# Altium footprint library Header.PcbLib: 119 footprints (part 7 of 8)
Each footprint in its own frame and in the unit in brackets; x right, y up, seen from the top. Pads: shape width x height; smd on the part's side, far side on the other; paste and mask are expansions set on the pad; w line width, h text height; cw(c..) or ccw(c..) is an arc to the next point about the centre after c.
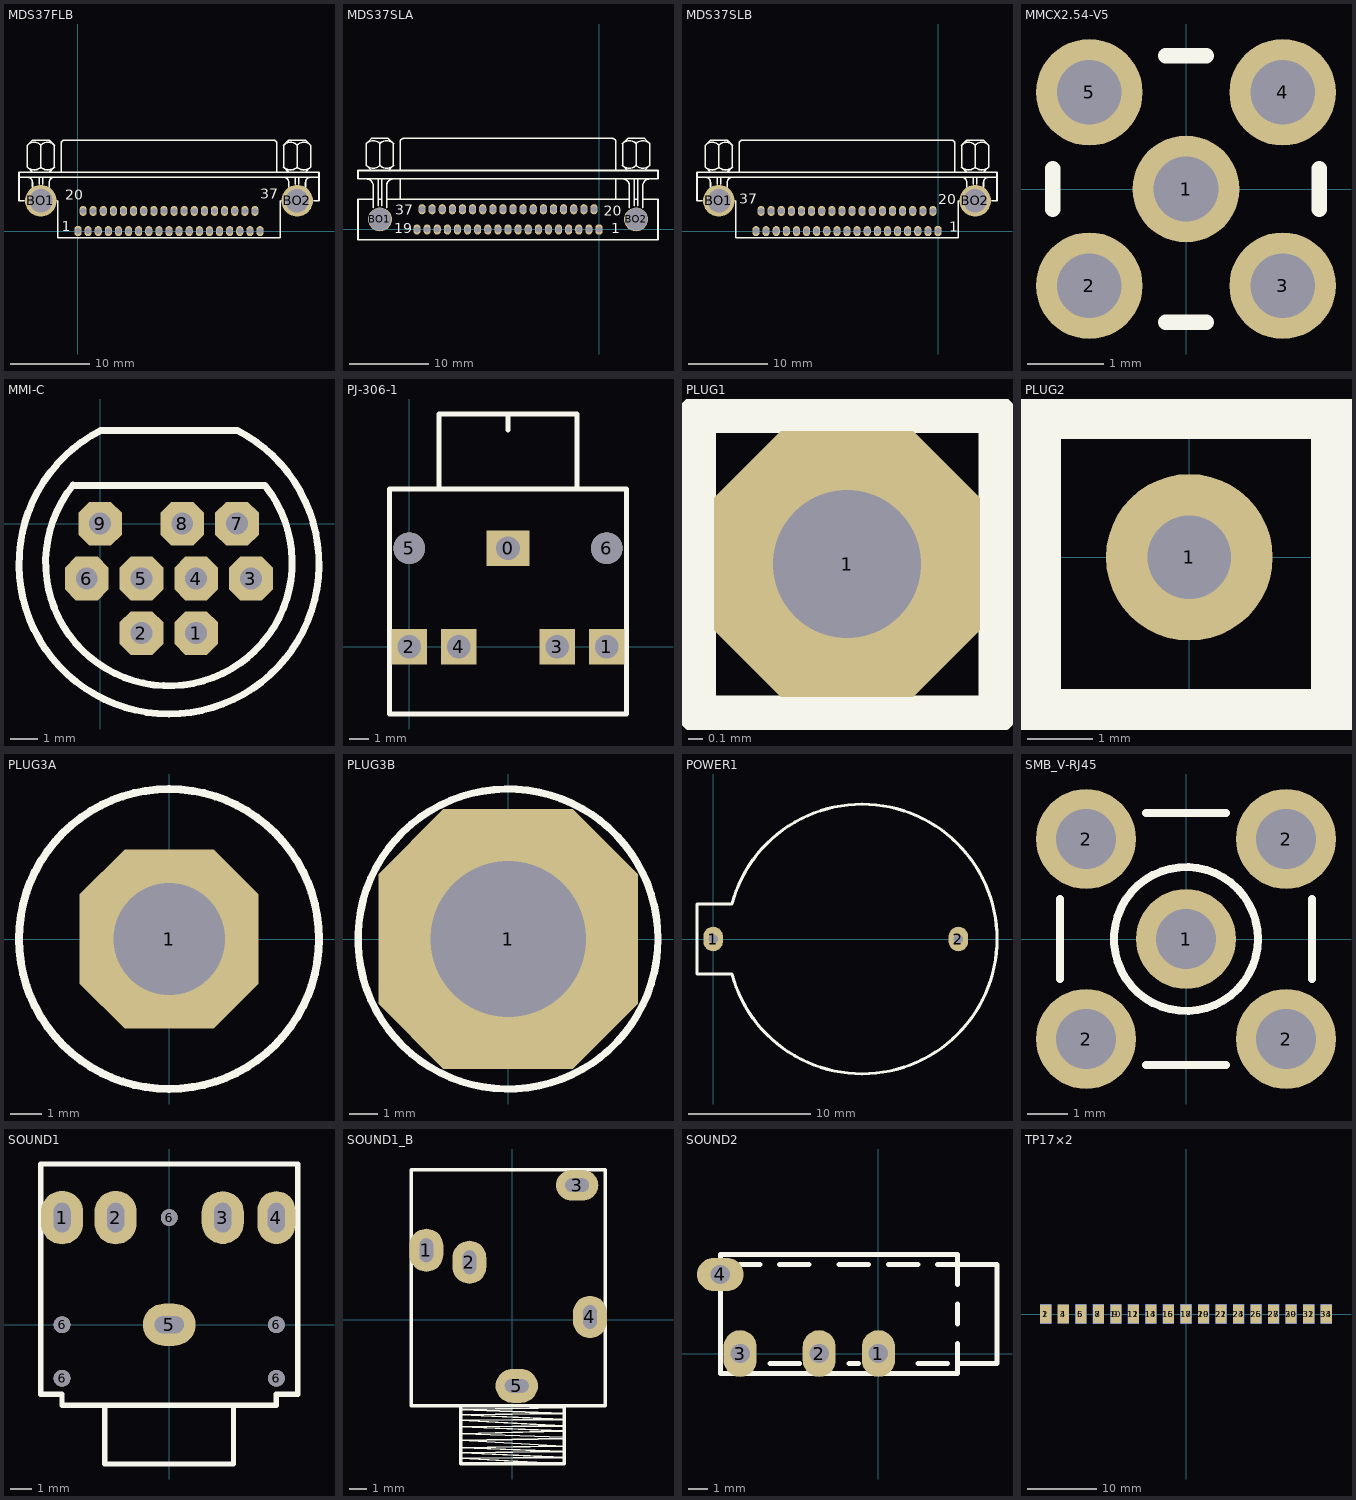
[diagram p6: the footprints below, top view; thin cyan lines are the x and y axes]

## MDS37FLB [mil]
pads (39):
  oct 35x50 hole 30: 1(0,0)
  oval 35x50 hole 30: 2(50,0) 3(100,0) 4(150,0) 5(200,0) 6(250,0) 7(300,0) 8(350,0) 9(400,0) 10(450,0) 11(500,0) 12(550,0) 13(600,0) 14(650,0) 15(700,0) 16(750,0) 17(800,0) 18(850,0) 19(900,0) 20(25,100) 21(75,100) 22(125,100) 23(175,100) 24(225,100) 25(275,100) 26(325,100) 27(375,100) 28(425,100) 29(475,100) 30(525,100) 31(575,100) 32(625,100) 33(675,100) 34(725,100) 35(775,100) 36(825,100) 37(875,100)
  round 156.67 hole 115: BO1(-183.33,150) BO2(1083.33,150)
Top Overlay:
  lines w8: -266.67,150 -291.67,150 -291.67,266.67 ; -250.25,316.41 ccw(c-216.67,350) -183.08,316.41 ; -250.25,425.25 cw(c-216.67,391.67) -183.08,425.25 ; -250,266.67 cw(c-250,241.67) -225,241.67 -225,216.67 ; -225,291.67 -250,316.67 -250,425 -225,450 -141.67,450 -116.67,425 -116.67,316.67 -141.67,291.67 ; -191.67,233.33 -191.67,266.67 ; -183.59,316.41 ccw(c-150,350) -116.41,316.41 ; -183.59,425.25 cw(c-150,391.67) -116.41,425.25 ; -183.33,316.67 -183.33,425 ; -175,233.33 -175,266.67 ; -141.67,216.67 -141.67,241.67 cw(c-116.67,241.67) -116.67,266.67 ; -100,150 -100,-33.33 1000,-33.33 1000,150 ; -83.33,291.67 -83.33,433.33 cw(c-66.67,433.33) -66.67,450 966.67,450 cw(c966.67,433.33) 983.33,433.33 983.33,291.67 ; 1016.41,316.41 ccw(c1050,350) 1083.59,316.41 ; 1016.41,425.25 cw(c1050,391.67) 1083.59,425.25 ; 1016.67,266.67 cw(c1016.67,241.67) 1041.67,241.67 1041.67,216.67 ; 1041.67,291.67 1016.67,316.67 1016.67,425 1041.67,450 1125,450 1150,425 1150,316.67 1125,291.67 ; 1075,233.33 1075,266.67 ; 1083.08,316.41 ccw(c1116.67,350) 1150.25,316.41 ; 1083.08,425.25 cw(c1116.67,391.67) 1150.25,425.25 ; 1083.33,316.67 1083.33,425 ; 1091.67,233.33 1091.67,266.67 ; 1125,216.67 1125,241.67 cw(c1150,241.67) 1150,266.67 ; 1166.67,150 1191.67,150 1191.67,266.67 ; -291.67,266.67 1191.67,266.67 ; -291.67,266.67 -291.67,291.67 1191.67,291.67 1191.67,266.67
  text "1" at -80,0 h50
  text "20" at -62.44,156.33 h50
  text "37" at 900,160 h50

## MDS37SLA [mil]
pads (39):
  oct 35x50 hole 30: 1(0,0)
  oval 35x50 hole 30: 2(-50,0) 3(-100,0) 4(-150,0) 5(-200,0) 6(-250,0) 7(-300,0) 8(-350,0) 9(-400,0) 10(-450,0) 11(-500,0) 12(-550,0) 13(-600,0) 14(-650,0) 15(-700,0) 16(-750,0) 17(-800,0) 18(-850,0) 19(-900,0) 20(-25,100) 21(-75,100) 22(-125,100) 23(-175,100) 24(-225,100) 25(-275,100) 26(-325,100) 27(-375,100) 28(-425,100) 29(-475,100) 30(-525,100) 31(-575,100) 32(-625,100) 33(-675,100) 34(-725,100) 35(-775,100) 36(-825,100) 37(-875,100)
  round 118.33 hole 110.83: BO1(-1083.33,50) BO2(183.33,50)
Top Overlay:
  lines w8: -1150.25,316.41 ccw(c-1116.67,350) -1083.08,316.41 ; -1150.25,425.25 cw(c-1116.67,391.67) -1083.08,425.25 ; -1150,250 cw(c-1150,216.67) -1116.67,216.67 -1116.67,108.33 ; -1125,291.67 -1150,316.67 -1150,425 -1125,450 -1041.67,450 -1016.67,425 -1016.67,316.67 -1041.67,291.67 ; -1116.67,150 -1191.67,150 -1191.67,-50 291.67,-50 291.67,150 216.67,150 ; -1091.67,116.67 -1091.67,250 ; -1091.67,150 -1075,150 ; -1083.59,316.41 ccw(c-1050,350) -1016.41,316.41 ; -1083.59,425.25 cw(c-1050,391.67) -1016.41,425.25 ; -1083.33,316.67 -1083.33,425 ; -1075,116.67 -1075,250 ; -1050,108.33 -1050,216.67 cw(c-1016.67,216.67) -1016.67,250 ; -1050,150 150,150 ; -983.33,150 -983.33,250 ; -983.33,291.67 -983.33,433.33 cw(c-966.67,433.33) -966.67,450 66.67,450 cw(c66.67,433.33) 83.33,433.33 83.33,291.67 ; 83.33,150 83.33,250 ; 116.41,316.41 ccw(c150,350) 183.59,316.41 ; 116.41,425.25 cw(c150,391.67) 183.59,425.25 ; 116.67,250 cw(c116.67,216.67) 150,216.67 150,108.33 ; 141.67,291.67 116.67,316.67 116.67,425 141.67,450 225,450 250,425 250,316.67 225,291.67 ; 175,116.67 175,250 ; 175,150 191.67,150 ; 183.08,316.41 ccw(c216.67,350) 250.25,316.41 ; 183.08,425.25 cw(c216.67,391.67) 250.25,425.25 ; 183.33,316.67 183.33,425 ; 191.67,116.67 191.67,250 ; 216.67,108.33 216.67,216.67 cw(c250,216.67) 250,250 ; -1191.67,250 -1191.67,291.67 291.67,291.67 291.67,250 -1191.67,250
  text "1" at 60,-20 h50
  text "19" at -1012.73,-18.18 h50
  text "37" at -1006.58,73.44 h50
  text "20" at 23.98,68.07 h50

## MDS37SLB [mil]
pads (39):
  oct 35x50 hole 30: 1(0,0)
  oval 35x50 hole 30: 2(-50,0) 3(-100,0) 4(-150,0) 5(-200,0) 6(-250,0) 7(-300,0) 8(-350,0) 9(-400,0) 10(-450,0) 11(-500,0) 12(-550,0) 13(-600,0) 14(-650,0) 15(-700,0) 16(-750,0) 17(-800,0) 18(-850,0) 19(-900,0) 20(-25,100) 21(-75,100) 22(-125,100) 23(-175,100) 24(-225,100) 25(-275,100) 26(-325,100) 27(-375,100) 28(-425,100) 29(-475,100) 30(-525,100) 31(-575,100) 32(-625,100) 33(-675,100) 34(-725,100) 35(-775,100) 36(-825,100) 37(-875,100)
  round 156.67 hole 115: BO1(-1083.33,150) BO2(183.33,150)
Top Overlay:
  lines w8: -1166.67,150 -1191.67,150 -1191.67,266.67 ; -1150.25,316.41 ccw(c-1116.67,350) -1083.08,316.41 ; -1150.25,425.25 cw(c-1116.67,391.67) -1083.08,425.25 ; -1150,266.67 cw(c-1150,241.67) -1125,241.67 -1125,216.67 ; -1125,291.67 -1150,316.67 -1150,425 -1125,450 -1041.67,450 -1016.67,425 -1016.67,316.67 -1041.67,291.67 ; -1091.67,233.33 -1091.67,266.67 ; -1083.59,316.41 ccw(c-1050,350) -1016.41,316.41 ; -1083.59,425.25 cw(c-1050,391.67) -1016.41,425.25 ; -1083.33,316.67 -1083.33,425 ; -1075,233.33 -1075,266.67 ; -1041.67,216.67 -1041.67,241.67 cw(c-1016.67,241.67) -1016.67,266.67 ; -1000,150 -1000,-33.33 100,-33.33 100,150 ; -983.33,291.67 -983.33,433.33 cw(c-966.67,433.33) -966.67,450 66.67,450 cw(c66.67,433.33) 83.33,433.33 83.33,291.67 ; 116.41,316.41 ccw(c150,350) 183.59,316.41 ; 116.41,425.25 cw(c150,391.67) 183.59,425.25 ; 116.67,266.67 cw(c116.67,241.67) 141.67,241.67 141.67,216.67 ; 141.67,291.67 116.67,316.67 116.67,425 141.67,450 225,450 250,425 250,316.67 225,291.67 ; 175,233.33 175,266.67 ; 183.08,316.41 ccw(c216.67,350) 250.25,316.41 ; 183.08,425.25 cw(c216.67,391.67) 250.25,425.25 ; 183.33,316.67 183.33,425 ; 191.67,233.33 191.67,266.67 ; 225,216.67 225,241.67 cw(c250,241.67) 250,266.67 ; 266.67,150 291.67,150 291.67,266.67 ; -1191.67,266.67 -1191.67,291.67 291.67,291.67 291.67,266.67 ; -1191.67,266.67 291.67,266.67
  text "1" at 56.69,-2.62 h50
  text "20" at 1.59,133.35 h50
  text "37" at -982.06,136.6 h50

## MMCX2.54-V5 [mm] "Connector; RF Coaxial, MMCX, Thru-Hole; 5 Position; Vertical"
height 4.45
pads (5):
  round 1.4 hole 0.85: 1(0,0) 2(-1.27,-1.27) 3(1.27,-1.27) 4(1.27,1.27) 5(-1.27,1.27)
Top Overlay:
  lines w0.2: -1.75,-0.27 -1.75,0.27 ; -0.27,-1.75 0.27,-1.75 ; -0.27,1.75 0.27,1.75 ; 1.75,-0.27 1.75,0.27

## MMI-C [mm]
pads (9):
  oct 1.6x1.6 hole 0.8: 1(3.508,-4) 2(1.508,-4) 3(5.508,-2.007) 4(3.508,-2.007) 5(1.508,-2.007) 6(-0.492,-2.007) 7(5,0) 8(3,0) 9(0,0)
Top Overlay:
  lines w0.254: -0.986,1.416 ccw(c2.51,-1.422) 6.022,1.396 ; -0.962,1.397 6.023,1.397 ; 0.017,3.404 5.017,3.404 cw(c2.515,-1.473) 0.027,3.411

## PJ-306-1 [mm]
pads (7):
  rect 2.2x1.8 hole 1.2: 0(5,5)
  rect 1.8x1.8 hole 1.2: 1(10,0) 2(0,0) 3(7.5,0) 4(2.5,0)
  round 1.6 hole 1.6 unplated: 5(0,5) 6(10,5)
Top Overlay:
  lines w0.254: 1.5,8 1.5,11.8 8.4,11.8 ; 5,11 5,11.8 ; 8.5,8 8.5,11.8 ; -1,-3.4 -1,8 11,8 11,-3.4 -1,-3.4
3D body: height 3.2, standoff -10.8, extent -1.041,-3.689 11.059,11.411

## PLUG1 [mm]
pads (1):
  oct 1.8x1.8 hole 1: 1(0,0)
Top Overlay:
  lines w0.254: -1.016,-1.016 0,-1.016 1.016,-1.016 1.016,1.016 -1.016,1.016 -1.016,-1.016

## PLUG2 [mil]
pads (1):
  round 100 hole 50: 1(0,0)
Top Overlay:
  lines w30: -92,-94 -92,86 88,86 88,-94 -92,-94

## PLUG3A [mil]
pads (1):
  oct 227x227 hole 141.73: 1(0,0)
Top Overlay:
  circle w10: c-0.26,0 r190.26

## PLUG3B [mm]
pads (1):
  oct 9x9 hole 5.4: 1(0,0)
Top Overlay:
  circle w0.254: c-0.007,0 r5.2

## POWER1 [mm]
pads (2):
  oval 1.6x2 hole 0.762: 1(0,0) 2(20,0)
Top Overlay:
  lines w0.254: -1.323,-2.847 -1.323,2.847 1.524,2.847 cw(c12.149,0) 1.524,-2.847 -1.217,-2.847

## SMB_V-RJ45 [mm] "Connector; SMB Straight"
pads (5):
  round 2.5 hole 1.5: 1(0,0) 2(-2.5,-2.5) 2(-2.5,2.5) 2(2.5,-2.5) 2(2.5,2.5)
Top Overlay:
  circle w0.2: c0,0 r1.8
  lines w0.2: -3.15,-1 -3.15,1 ; -1,-3.15 1,-3.15 ; -1,3.15 1,3.15 ; 3.15,-1 3.15,1
Mechanical 1:
  circle w0.025: c0,0 r0.2
  circle w0.025: c0,0 r1.05
  circle w0.025: c0,0 r1.8

## SOUND1 [mm]
pads (10):
  oval 2x2.54 hole 0.8 slot 1.4 at 90 deg: 1(-5.08,5.08) 2(-2.54,5.08)
  oval 2x2.5 hole 0.8 slot 1.4 at 90 deg: 3(2.54,5.08)
  oval 1.8x2.5 hole 0.8 slot 1.4 at 90 deg: 4(5.08,5.08)
  oval 2.5x2 hole 0.8 slot 1.4 at 0 deg: 5(0,0)
  round 0.8 hole 0.8: 6(-5.08,-2.54) 6(-5.08,0) 6(0,5.08) 6(5.08,-2.54) 6(5.08,0)
Top Overlay:
  lines w0.254: -3.048,-3.81 -3.048,-6.604 3.048,-6.604 3.048,-3.81 ; -6.096,-3.302 -6.096,7.62 0,7.62 6.096,7.62 6.096,-3.302 5.08,-3.302 5.08,-3.81 -5.08,-3.81 -5.08,-3.302 -6.096,-3.302

## SOUND1_B [mm] "14mm×11mm"
height 6.8
pads (5):
  oval 2x2.54 hole 0.8 slot 1.4 at 90 deg: 1(-5.08,4.089) 2(-2.54,3.378)
  oval 2.5x1.8 hole 0.8 slot 1.4 at 0 deg: 3(3.81,7.925)
  oval 2x2.5 hole 0.8 slot 1.4 at 90 deg: 4(4.572,0.152)
  oval 2.5x2 hole 0.8 slot 1.4 at 0 deg: 5(0.254,-3.912)
Top Overlay:
  lines w0.1: -3.048,-7.137 3.048,-7.01 ; -3.048,-7.112 3.048,-7.468 ; 3.048,-6.934 -3.048,-6.731 3.048,-6.579 -3.048,-6.325 3.048,-6.274 -3.048,-5.944 3.048,-5.893 -3.048,-5.613 3.048,-5.537 -3.048,-5.309 3.048,-5.207 ; 3.075,-8.52 -3.021,-8.189 3.075,-8.139 -3.021,-7.859 3.075,-7.783 -3.021,-7.554 3.075,-7.453
  lines w0.2: -3.048,-5.08 -3.048,-8.509 0,-8.509 3.048,-8.509 3.048,-5.08 ; -5.969,-5.08 -5.969,8.839 5.461,8.839 5.461,-5.08 -5.969,-5.08

## SOUND2 [mm]
pads (4):
  oval 1.7x2.4 hole 1: 1(0,0) 2(-3.048,0) 3(-7.112,0)
  oval 2.4x1.7 hole 1: 4(-8.128,4.064)
Top Overlay:
  lines w0.254: -7.112,4.572 -6.096,4.572 ; -5.588,-0.508 -4.064,-0.508 ; -5.08,4.572 -3.556,4.572 ; -2.032,4.572 -0.508,4.572 ; -1.524,-0.508 -1.016,-0.508 ; 0.508,4.572 2.032,4.572 ; 2.032,-0.508 3.556,-0.508 ; 3.048,4.572 4.064,4.572 ; 4.064,0.508 4.064,-0.508 ; 4.064,1.524 4.064,2.54 ; 4.064,3.556 4.064,4.572 ; 4.064,-0.508 6.096,-0.508 6.096,4.572 4.064,4.572 ; 4.064,-0.508 4.064,-1.016 -8.128,-1.016 -8.128,5.08 4.064,5.08 4.064,4.572

## TP17×2 [mm]
pads (34):
  rect 1.6x2.8 smd: 1(-20.32,0) 3(-17.78,0) 5(-15.24,0) 7(-12.7,0) 9(-10.16,0) 11(-7.62,0) 13(-5.08,0) 15(-2.54,0) 17(0,0) 19(2.54,0) 21(5.08,0) 23(7.62,0) 25(10.16,0) 27(12.7,0) 29(15.24,0) 31(17.78,0) 33(20.32,0)
  rect 1.6x2.82 smd far side: 2(-20.32,0) 6(-15.24,0) 8(-12.7,0) 10(-10.16,0) 12(-7.62,0) 14(-5.08,0) 16(-2.54,0) 18(0,0) 20(2.54,0) 22(5.08,0) 24(7.62,0) 26(10.16,0) 28(12.7,0) 30(15.24,0) 32(17.78,0) 34(20.32,0)
  rect 1.5x2.65 smd far side: 4(-17.78,0)